# Altium schematic symbol library NX3L4053.SchLib: 1 symbol
Pins are listed as number, name and electrical type; pins without a type are passive.

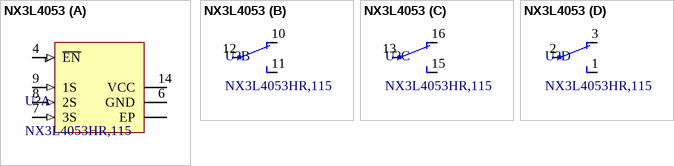
[diagram p0: symbol NX3L4053]

## NX3L4053
designator U?, comment NX3L4053HR,115
3 Circuit IC Switch 2:1 800mOhm 16-HXQFN (3x3); Manufacturer Part Number 1: NXP USA Inc.; Type: NX3L4053HR,115; Manufacturer 1: NX3L4053HR,115
footprint HXQFN-16_SOT-1039-2_C (HXQFN16 (U) plastic thermal enhanced extremely thin quad  flat package; no leads; 16 terminals, 0.5 mm pitch, 3 mm x 3  mm x 0.5 mm body)
part A pins: 4 ~{EN} (in), 6 GND (power), 7 3S (in), 8 2S (in), 9 1S (in), 14 VCC (power), EP (power)
part B pins: 10 1Y0, 11 1Y1, 12 1Z
part C pins: 13 2Z, 15 2Y1, 16 2Y0
part D pins: 1 3Y1, 2 3Z, 3 3Y0